# Altium footprint library dpak.PcbLib: 5 footprints
Each footprint in its own frame and in the unit in brackets; x right, y up, seen from the top. Pads: shape width x height; smd on the part's side, far side on the other; paste and mask are expansions set on the pad; w line width, h text height; cw(c..) or ccw(c..) is an arc to the next point about the centre after c.
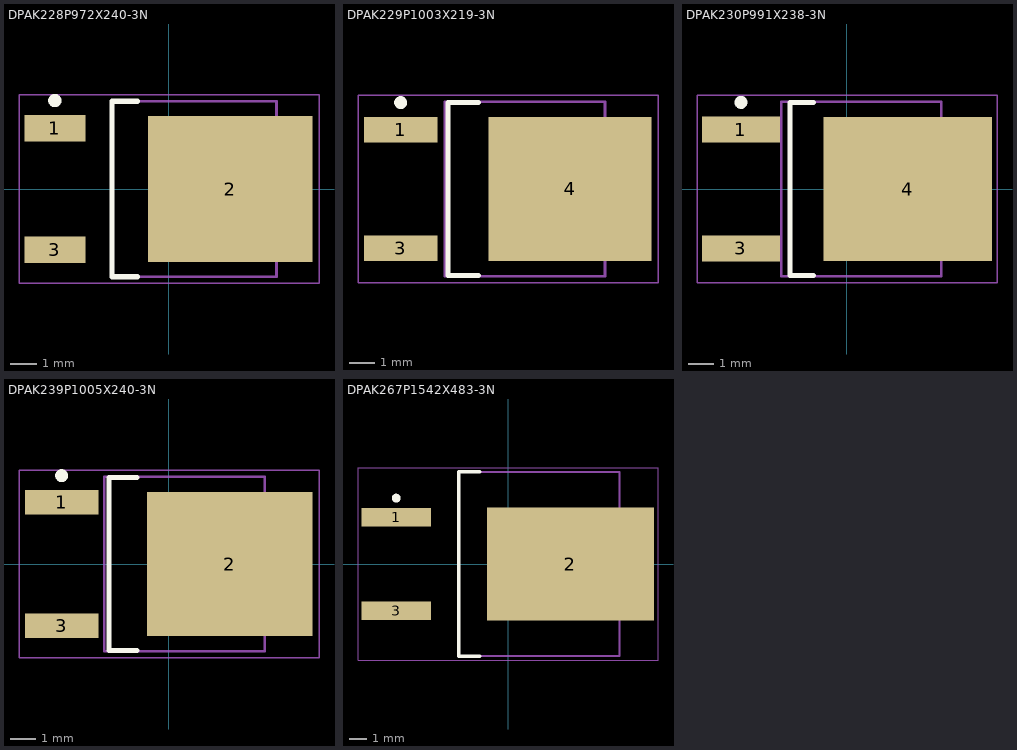
[diagram p0: the footprints below, top view; thin cyan lines are the x and y axes]

## DPAK228P972X240-3N [mm] "D-PAK, 3-Pads, Body 6.20x6.66mm (max), IPC Medium Density"
height 2.4
pads (3):
  rect 2.3x1 smd: 1(-4.3,2.28) 3(-4.3,-2.28)
  rect 6.2x5.5 smd: 2(2.3,0)
Top Overlay:
  circle w0.25: c-4.3,3.33 r0.125
  lines w0.2: -1.2,-3.3 -2.15,-3.3 -2.15,3.3 -1.2,3.3
Mechanical 13:
  lines w0.1: -2.15,-3.3 4.05,-3.3 4.05,3.3 -2.15,3.3 -2.15,-3.3
Mechanical 15:
  lines w0.05: -5.65,-3.55 5.65,-3.55 5.65,3.55 -5.65,3.55 -5.65,-3.55
  lines w0.1: -0.5,0 0.5,0 ; 0,-0.5 0,0.5
3D body "DPAK228P972X240-3N.step": height 3, standoff 0, extent -4.275,-3.3 5.45,3.3

## DPAK229P1003X219-3N [mm] "D-PAK, 3-Pads, Body 6.20x6.73mm (max), IPC Medium Density"
height 2.19
pads (3):
  rect 2.85x1 smd: 1(-26.35,11.45) 3(-26.35,6.87)
  rect 6.3x5.55 smd: 4(-19.8,9.16)
Top Overlay:
  circle w0.25: c-26.35,12.5 r0.125
  lines w0.2: -23.35,5.81 -24.525,5.81 -24.525,12.51 -23.35,12.51
Mechanical 13:
  lines w0.1: -24.65,5.785 -24.65,12.535 -18.45,12.535 -18.45,5.785 -24.65,5.785
Mechanical 15:
  lines w0.05: -28,5.535 -28,12.785 -16.4,12.785 -16.4,5.535 -28,5.535
  lines w0.1: -22.7,9.16 -21.7,9.16 ; -22.2,8.66 -22.2,9.66
3D body "DPAK229P1003X219-3N.step": height 4.57, standoff 0, extent -26.845,5.785 -16.815,12.535

## DPAK230P991X238-3N [mm] "D-PAK, 3-Pads, Body 6.20x6.73mm (max), IPC Medium Density"
height 2.38
pads (3):
  rect 3x1 smd: 1(-4.1,2.3) 3(-4.1,-2.3)
  rect 6.5x5.55 smd: 4(2.35,0)
Top Overlay:
  circle w0.25: c-4.1,3.35 r0.125
  lines w0.2: -1.3,-3.35 -2.2,-3.35 -2.2,3.35 -1.3,3.35
Mechanical 13:
  lines w0.1: -2.55,-3.375 3.65,-3.375 3.65,3.375 -2.55,3.375 -2.55,-3.375
Mechanical 15:
  lines w0.05: -5.8,-3.625 5.8,-3.625 5.8,3.625 -5.8,3.625 -5.8,-3.625
  lines w0.1: -0.5,0 0.5,0 ; 0,-0.5 0,0.5
3D body "DPAK230P991X238-3N.step": height 2.89, standoff 0, extent -4.605,-3.375 5.3,3.375

## DPAK239P1005X240-3N [mm] "D-PAK, 3-Pads, Body 6.20x6.73mm (max), IPC Medium Density"
height 2.4
pads (3):
  rect 2.85x0.95 smd: 1(-4.15,2.39) 3(-4.15,-2.39)
  rect 6.4x5.55 smd: 2(2.35,0)
Top Overlay:
  circle w0.25: c-4.15,3.415 r0.125
  lines w0.2: -1.25,-3.35 -2.325,-3.35 -2.325,3.35 -1.25,3.35
Mechanical 13:
  lines w0.1: -2.5,-3.375 3.7,-3.375 3.7,3.375 -2.5,3.375 -2.5,-3.375
Mechanical 15:
  lines w0.05: -5.8,-3.625 5.8,-3.625 5.8,3.625 -5.8,3.625 -5.8,-3.625
  lines w0.1: -0.5,0 0.5,0 ; 0,-0.5 0,0.5
3D body "DPAK239P1005X240-3N.step": height 2.53, standoff 0, extent -4.75,-3.375 5.3,3.375

## DPAK267P1542X483-3N [mm] "D2-PAK, 3-Pads, Body 7.67x8.58mm (max), IPC Medium Density"
height 4.83
pads (3):
  rect 3.95x1.05 smd: 1(-6.35,2.67) 3(-6.35,-2.67)
  rect 9.5x6.4 smd: 2(3.55,0)
Top Overlay:
  circle w0.25: c-6.35,3.745 r0.125
  lines w0.2: -1.6,-5.25 -2.8,-5.25 -2.8,5.25 -1.6,5.25
Mechanical 13:
  lines w0.1: -2.8,-5.225 6.34,-5.225 6.34,5.225 -2.8,5.225 -2.8,-5.225
Mechanical 15:
  lines w0.05: -8.525,-5.475 8.525,-5.475 8.525,5.475 -8.525,5.475 -8.525,-5.475
  lines w0.1: -0.5,0 0.5,0 ; 0,-0.5 0,0.5
3D body "DPAK267P1542X483-3N.step": height 5.36, standoff 0, extent -7.335,-5.225 8.09,5.225